# Altium footprint library OUTLET_LIB.PcbLib: 4 footprints
Each footprint in its own frame and in the unit in brackets; x right, y up, seen from the top. Pads: shape width x height; smd on the part's side, far side on the other; paste and mask are expansions set on the pad; w line width, h text height; cw(c..) or ccw(c..) is an arc to the next point about the centre after c.
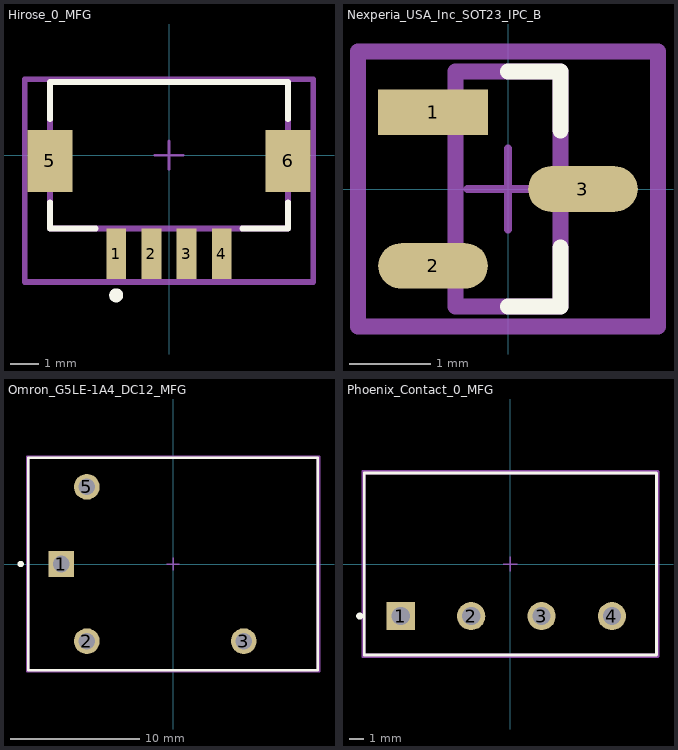
[diagram p0: the footprints below, top view; thin cyan lines are the x and y axes]

## Hirose_0_MFG [mm]
pads (6):
  rect 0.7x1.8 smd paste+0 mask+0: 1(-1.875,-3.5) 2(-0.625,-3.5) 3(0.625,-3.5) 4(1.875,-3.5)
  rect 1.6x2.2 smd paste+0 mask+0: 5(-4.225,-0.2) 6(4.225,-0.2)
Top Overlay:
  circle w0.25: c-1.875,-4.975 r0.125
  lines w0.2: -4.225,-1.675 -4.225,-2.6 -2.6,-2.6 ; -4.225,1.275 -4.225,2.6 4.225,2.6 4.225,1.275 ; 2.6,-2.6 4.225,-2.6 4.225,-1.675
Mechanical 10:
  lines w0.2: -5.125,-4.5 5.125,-4.5 5.125,2.7 -5.125,2.7 -5.125,-4.5
  text ".Designator" at 0,-0.901 h1
Mechanical 12:
  lines w0.2: -4.225,-2.6 4.225,-2.6 4.225,2.6 -4.225,2.6 -4.225,-2.6
Mechanical 15:
  lines w0.1: -0.5,0 0.5,0 ; 0,-0.5 0,0.5
  lines w0.2: -5.125,-4.5 5.125,-4.5 5.125,2.7 -5.125,2.7 -5.125,-4.5
3D body "Conn_Hirose_DF13A-4P-1_25H_51_eec.STEP": height 0.25, standoff 0, extent -5.125,-4.5 5.125,2.7

## Nexperia_USA_Inc_SOT23_IPC_B [mm]
pads (3):
  rect 1.355x0.562 smd paste+0 mask+0: 1(-0.925,0.95)
  rrect100% 1.355x0.562 smd paste+0 mask+0: 2(-0.925,-0.95) 3(0.925,0)
Top Overlay:
  lines w0.2: 0,-1.45 0.65,-1.45 0.65,-0.725 ; 0,1.45 0.65,1.45 0.65,0.725
Mechanical 10:
  lines w0.2: -1.853,-1.7 -1.853,1.7 1.853,1.7 1.853,-1.7 -1.853,-1.7
  text ".Designator" at 0,-0.001 h1
Mechanical 12:
  lines w0.2: -0.65,-1.45 -0.65,1.45 0.65,1.45 0.65,-1.45 -0.65,-1.45
Mechanical 15:
  lines w0.1: -0.5,0 0.5,0 ; 0,-0.5 0,0.5
  lines w0.2: -1.853,-1.7 -1.853,1.7 1.853,1.7 1.853,-1.7 -1.853,-1.7
3D body "Trans_Nexperia_USA_Inc_2N7002NXAKR_eec.STEP": height 0.25, standoff 0, extent -1.853,-1.7 1.853,1.7

## Omron_G5LE-1A4_DC12_MFG [mm]
pads (4):
  rect 2x2 hole 1.3 paste-1000 mask+0: 1(-8.7,0)
  round 2 hole 1.3 paste-1000 mask+0: 2(-6.7,-6) 3(5.5,-6) 5(-6.7,6)
Top Overlay:
  circle w0.25: c-11.85,0 r0.125
  lines w0.2: -11.25,-8.25 -11.25,8.25 11.25,8.25 11.25,-8.25 -11.25,-8.25
Mechanical 10:
  lines w0.2: -11.35,-8.35 -11.35,8.35 11.35,8.35 11.35,-8.35 -11.35,-8.35
  text ".Designator" at 0,0 h1
Mechanical 12:
  lines w0.2: -11.25,-8.25 -11.25,8.25 11.25,8.25 11.25,-8.25 -11.25,-8.25
Mechanical 15:
  lines w0.1: -0.5,0 0.5,0 ; 0,-0.5 0,0.5
  lines w0.2: -11.35,-8.35 -11.35,8.35 11.35,8.35 11.35,-8.35 -11.35,-8.35
3D body "Relay_Omron_G5LE-1A4_DC12_eec.STEP": height 0.25, standoff 0, extent -11.35,-8.35 11.35,8.35

## Phoenix_Contact_0_MFG [mm]
pads (4):
  rect 2x2 hole 1.3 paste-1000 mask+0: 1(-7.785,-3.7)
  round 2 hole 1.3 paste-1000 mask+0: 2(-2.785,-3.7) 3(2.215,-3.7) 4(7.215,-3.7)
Top Overlay:
  circle w0.25: c-10.7,-3.7 r0.125
  lines w0.2: -10.385,-6.475 -10.385,6.475 10.385,6.475 10.385,-6.475 -10.385,-6.475
Mechanical 10:
  lines w0.2: -10.485,-6.575 -10.485,6.575 10.485,6.575 10.485,-6.575 -10.485,-6.575
  text ".Designator" at 0,0.187 h1
Mechanical 12:
  lines w0.2: -10.385,-6.475 -10.385,6.475 10.385,6.475 10.385,-6.475 -10.385,-6.475
Mechanical 15:
  lines w0.1: -0.5,0 0.5,0 ; 0,-0.5 0,0.5
  lines w0.2: -10.485,-6.575 -10.485,6.575 10.485,6.575 10.485,-6.575 -10.485,-6.575
3D body "Conn_Phoenix_Contact_1988820_eec.STEP": height 0.25, standoff 0, extent -10.485,-6.575 10.485,6.575